# Altium integrated library LDQ-M3604RI.IntLib: 1 symbol
Pins are listed as number, name and electrical type; pins without a type are passive.

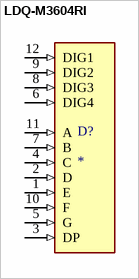
[diagram p0: symbol LDQ-M3604RI]

## LDQ-M3604RI
designator D?
Display, Seven Segment, 9.2MM, Red; MF: Lumex; MP: LDQ-M3604RI; SnapEDA_Link: https://www.snapeda.com/parts/LDQ-M3604RI/Lumex/view-part/?ref=snap; Package: None; Value: *; Check_prices: https://www.snapeda.com/parts/LDQ-M3604RI/Lumex/view-part/?ref=eda
footprint LED_LDQ-M3604RI
pins: 1 E (in), 2 D (in), 3 DP (in), 4 C (in), 5 G (in), 6 DIG4 (in), 7 B (in), 8 DIG3 (in), 9 DIG2 (in), 10 F (in), 11 A (in), 12 DIG1 (in)